# Altium schematic symbol library 车载定位器.SchLib: 2 symbols
Pins are listed as number, name and electrical type; pins without a type are passive.

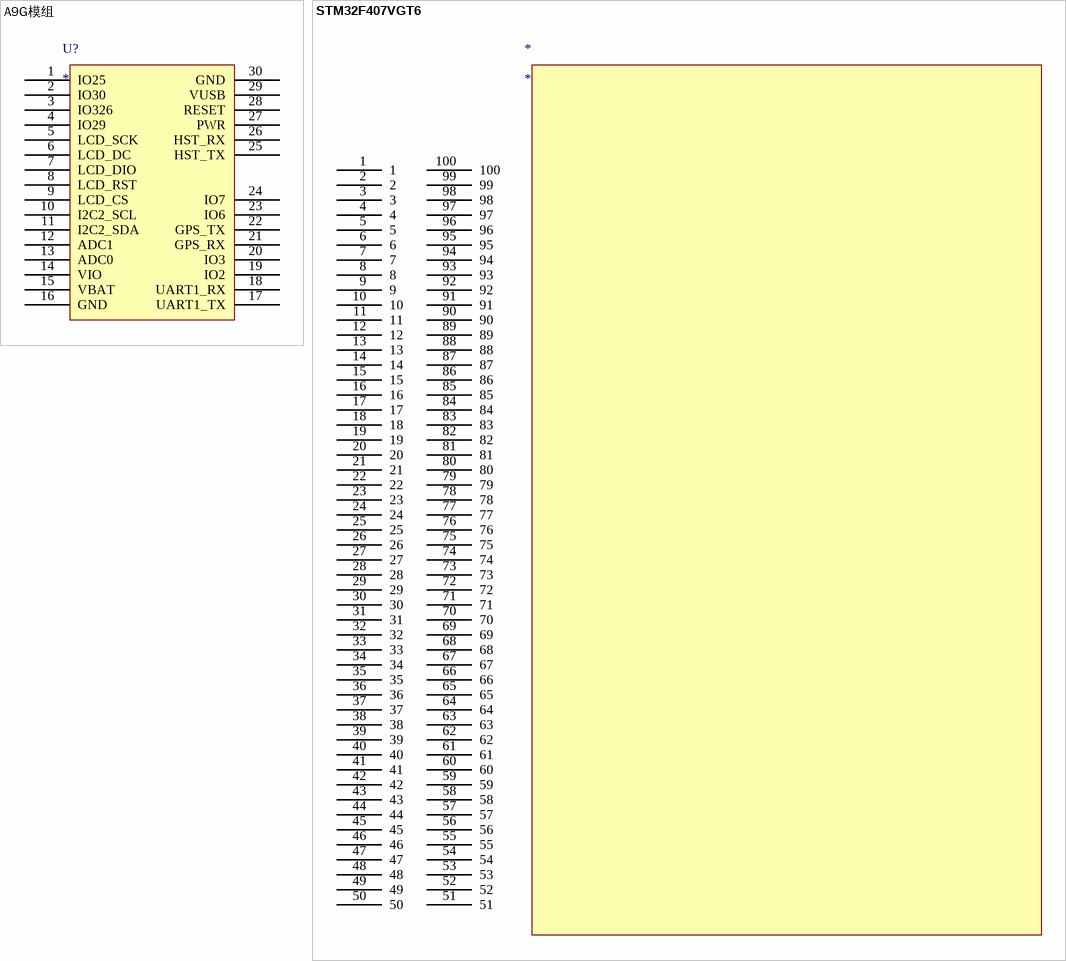
[diagram p0: symbols A9G模组 to STM32F407VGT6]

## A9G模组
designator U?
footprint A9G (A9G模组)
pins: 1 IO25, 2 IO30, 3 IO326, 4 IO29, 5 LCD_SCK, 6 LCD_DC, 7 LCD_DIO, 8 LCD_RST, 9 LCD_CS, 10 I2C2_SCL, 11 I2C2_SDA, 12 ADC1, 13 ADC0, 14 VIO, 15 VBAT, 16 GND, 17 UART1_TX, 18 UART1_RX, 19 IO2, 20 IO3, 21 GPS_RX, 22 GPS_TX, 23 IO6, 24 IO7, 25 HST_TX, 26 HST_RX, 27 PWR, 28 RESET, 29 VUSB, 30 GND

## STM32F407VGT6
designator *
footprint QFP-100 (LSA16.20-LSB16.20-PITCH0.50-TL)
pins: 1, 2, 3, 4, 5, 6, 7, 8, 9, 10, 11, 12, 13, 14, 15, 16, 17, 18, 19, 20, 21, 22, 23, 24, 25, 26, 27, 28, 29, 30, 31, 32, 33, 34, 35, 36, 37, 38, 39, 40, 41, 42, 43, 44, 45, 46, 47, 48, 49, 50, 51, 52, 53, 54, 55, 56, 57, 58, 59, 60, 61, 62, 63, 64, 65, 66, 67, 68, 69, 70, 71, 72, 73, 74, 75, 76, 77, 78, 79, 80, 81, 82, 83, 84, 85, 86, 87, 88, 89, 90, 91, 92, 93, 94, 95, 96, 97, 98, 99, 100